# EAGLE library part MPL115A2 (library Sensors)
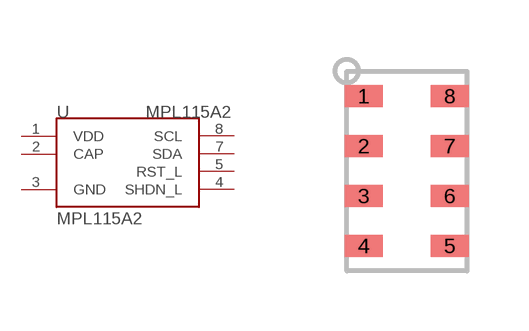
[diagram p0: symbol with the pads of MPL115A2; footprint MPL115A2]

Designator prefix U

## MPL115A2  [MPL115A2]
1  VDD
2  CAP
3  GND
4  SHDN_L
5  RST_L
7  SDA
8  SCL

## Footprint MPL115A2 (pad centres in mm)
smd 0.95 x 0.55: 1 -1.075,1.875; 2 -1.075,0.625; 3 -1.075,-0.625; 4 -1.075,-1.875; 5 1.075,-1.875; 6 1.075,-0.625; 7 1.075,0.625; 8 1.075,1.875